# Altium integrated library Xilinx Virtex-II.IntLib: 158 symbols (part 36 of 59)
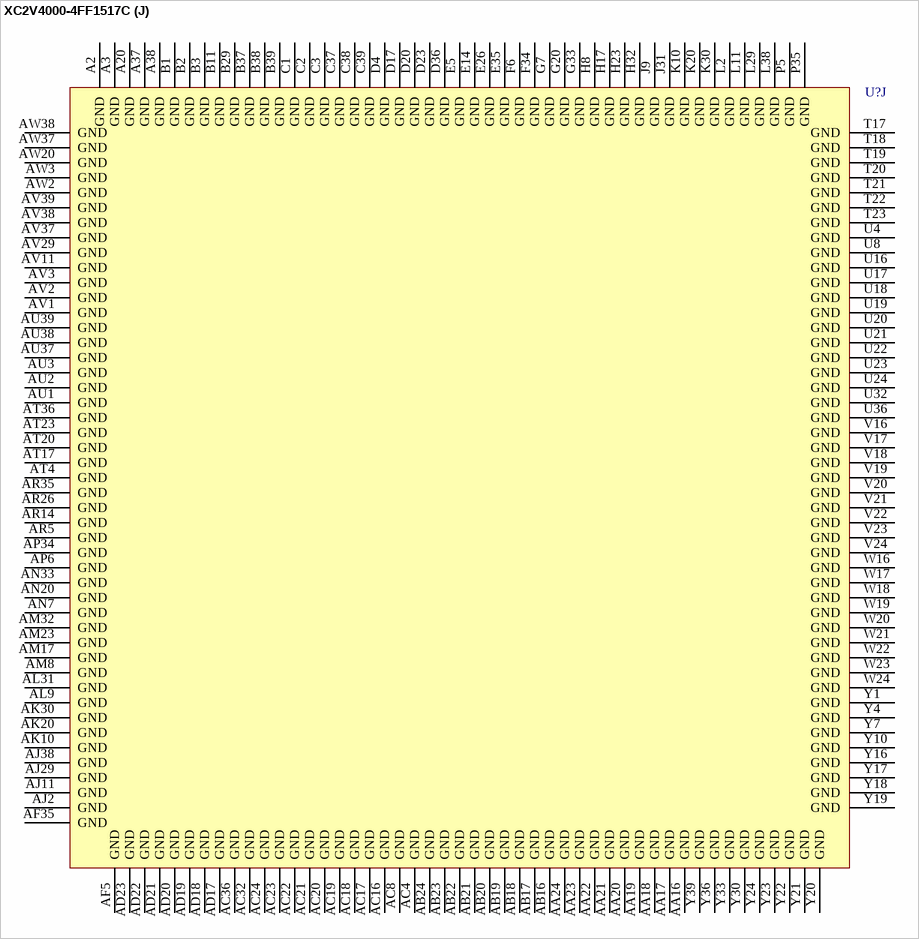
[diagram p434: symbol XC2V4000-4FF1517C]

## XC2V4000-4FF1517C
designator U?
Virtex-II 1.5V FPGA, 1517-Ball BGA, Commercial Grade; PackageDocument: ver1.0, Apr-2001; Published: 15-Apr-2002; DatasheetDocument: Mar-2004; PackageReference: FF1517; Publisher: Altium Limited; Code_JEDEC: MS-034-AAU-1
footprint FF1517 (1517-Ball Flip-Chip Fine Pitch Ball Grid Array (FF1517))
3D model XC2V4000-FF1517 (1517-Ball Flip-Chip Fine Pitch Ball Grid Array (FF1517))
signal-integrity model XC2V4000_FF1517 (Virtex-II)
part A pins: A21 IO_L94N_0/VREF_0 (io), A22 IO_L94P_0 (io), A23 IO_L82N_0 (io), A24 IO_L82P_0 (io), A25 IO_L70N_0 (io), A26 IO_L70P_0 (io), A27 IO_L58N_0 (io), A28 IO_L58P_0 (io), A29 IO_L52N_0 (io), A30 IO_L52P_0 (io), A31 NC, A32 NC, A33 IO_L22N_0 (io), A34 IO_L22P_0 (io), A35 NC, A36 NC, B21 IO_L91N_0/VREF_0 (io), B22 IO_L91P_0 (io), B23 IO_L79N_0 (io), B24 IO_L79P_0 (io), B25 IO_L73N_0 (io), B26 VCCO_0 (power), B27 IO_L55N_0 (io), B28 IO_L55P_0 (io), B30 NC, B31 NC, B32 IO_L25N_0 (io), B33 IO_L25P_0 (io), B34 NC, B35 NC, B36 IO_L01N_0 (io), C21 IO_L96N_0/GCLK5P (io), C22 VCCO_0 (power), C23 IO_L76N_0 (io), C24 IO_L76P_0 (io), C25 IO_L73P_0 (io), C26 IO_L67N_0 (io), C27 IO_L67P_0 (io), C28 IO_L49N_0 (io), C29 IO_L49P_0 (io), C30 IO_L28N_0 (io), C31 IO_L28P_0 (io), C32 IO_L19N_0 (io), C33 IO_L19P_0 (io), C34 IO_L04N_0/VREF_0 (io), C35 IO_L04P_0 (io), C36 IO_L01P_0 (io), D21 IO_L96P_0/GCLK4S (io), D22 IO_L93P_0 (io), D24 IO_L69N_0 (io), D25 IO_L69P_0/VREF_0 (io), D26 IO_L54N_0 (io), D27 IO_L54P_0 (io), D28 NC, D29 NC, D30 IO_L30N_0 (io), D31 IO_L30P_0 (io), D32 IO_L06N_0 (io), D33 IO_L03N_0/VRP_0 (io), D34 IO_L03P_0/VRN_0 (io), E21 IO_L93N_0 (io), E22 IO_L78N_0 (io), E23 IO_L78P_0 (io), E24 IO_L60N_0 (io), E25 IO_L60P_0 (io), E27 IO_L51N_0 (io), E28 IO_L51P_0/VREF_0 (io), E29 VCCO_0 (power), E30 IO_L21N_0 (io), E31 IO_L21P_0/VREF_0 (io), E32 NC, E33 IO_L06P_0 (io), F21 IO_L84N_0 (io), F22 IO_L84P_0 (io), F23 IO_L75N_0 (io), F24 IO_L75P_0/VREF_0 (io), F25 IO_L57N_0 (io), F26 IO_L57P_0/VREF_0 (io), F27 NC, F28 NC, F29 IO_L24N_0 (io), F30 IO_L24P_0 (io), F31 NC, F32 NC, G21 IO_L81N_0 (io), G22 IO_L81P_0/VREF_0 (io), G23 IO_L72N_0 (io), G24 IO_L72P_0 (io), G25 IO_L53P_0 (io), G26 IO_L53N_0 (io), G27 VCCO_0 (power), G28 IO_L27N_0 (io), G29 IO_L27P_0/VREF_0 (io), G30 IO_L05P_0 (io), G31 NC, H20 IO_L95N_0/GCLK7P (io), H21 IO_L83P_0 (io), H22 IO_L83N_0 (io), H24 IO_L56P_0 (io), H25 IO_L56N_0 (io), H26 NC, H27 NC, H28 NC, H29 NC, H30 IO_L05N_0 (io), J20 IO_L95P_0/GCLK6S (io), J21 IO_L80P_0 (io), J22 IO_L80N_0 (io), J23 IO_L68P_0 (io), J24 IO_L68N_0 (io), J25 VCCO_0 (power), J26 IO_L29P_0 (io), J27 IO_L29N_0 (io), J28 NC, J29 IO_L02P_0 (io), J30 IO_L02N_0 (io), K21 IO_L77P_0 (io), K22 IO_L77N_0 (io), K23 IO_L59P_0 (io), K24 IO_L59N_0 (io), K25 IO_L50N_0 (io), K26 IO_L23P_0 (io), K27 IO_L23N_0 (io), K28 NC, L20 IO_L92N_0 (io), L21 IO_L74P_0 (io), L22 IO_L74N_0 (io), L23 VCCO_0 (power), L24 IO_L50P_0 (io), L25 IO_L26P_0 (io), L26 IO_L26N_0 (io), M20 IO_L92P_0 (io), M21 IO_L71P_0 (io), M22 IO_L71N_0 (io), M23 NC, M24 NC, M25 IO_L20P_0 (io), M26 IO_L20N_0 (io), N21 VCCO_0 (power), N22 VCCO_0 (power), N23 VCCO_0 (power), N24 VCCO_0 (power), N25 VCCO_0 (power), N26 VCCO_0 (power), P21 VCCO_0 (power), P22 VCCO_0 (power), P23 VCCO_0 (power), P24 VCCO_0 (power), P25 VCCO_0 (power)
part B pins: A4 NC, A5 NC, A6 IO_L22N_1 (io), A7 IO_L22P_1 (io), A8 NC, A9 NC, A10 IO_L49N_1 (io), A11 IO_L49P_1 (io), A12 IO_L55N_1 (io), A13 IO_L55P_1 (io), A14 IO_L70N_1 (io), A15 IO_L70P_1 (io), A16 IO_L79N_1 (io), A17 IO_L79P_1 (io), A18 IO_L91N_1 (io), A19 IO_L91P_1/VREF_1 (io), B4 IO_L01P_1 (io), B5 NC, B6 NC, B7 IO_L25N_1 (io), B8 IO_L25P_1 (io), B9 NC, B10 NC, B12 IO_L54N_1 (io), B13 IO_L54P_1 (io), B14 VCCO_1 (power), B15 IO_L67P_1 (io), B16 IO_L76N_1 (io), B17 IO_L76P_1 (io), B18 IO_L82N_1 (io), B19 IO_L82P_1 (io), C4 IO_L01N_1 (io), C5 IO_L04N_1 (io), C6 IO_L04P_1/VREF_1 (io), C7 IO_L19N_1 (io), C8 IO_L19P_1 (io), C9 IO_L28N_1 (io), C10 IO_L28P_1 (io), C11 IO_L52N_1 (io), C12 IO_L52P_1 (io), C13 IO_L58N_1 (io), C14 IO_L58P_1 (io), C15 IO_L67N_1 (io), C16 IO_L73N_1 (io), C17 IO_L73P_1 (io), C18 VCCO_1 (power), C19 IO_L94N_1 (io), C20 IO_L94P_1/VREF_1 (io), D6 IO_L03N_1/VRP_1 (io), D7 IO_L03P_1/VRN_1 (io), D8 IO_L20N_1 (io), D9 IO_L24N_1 (io), D10 IO_L24P_1 (io), D11 NC, D12 NC, D13 IO_L57N_1/VREF_1 (io), D14 IO_L57P_1 (io), D15 IO_L72N_1 (io), D16 IO_L72P_1 (io), D18 IO_L84N_1 (io), D19 IO_L84P_1 (io), E7 IO_L20P_1 (io), E8 IO_L06P_1 (io), E9 IO_L21N_1/VREF_1 (io), E10 IO_L21P_1 (io), E11 VCCO_1 (power), E12 NC, E13 NC, E15 IO_L69N_1/VREF_1 (io), E16 IO_L69P_1 (io), E17 IO_L80P_1 (io), E18 IO_L80N_1 (io), E19 IO_L93N_1 (io), E20 IO_L93P_1 (io), F8 IO_L06N_1 (io), F9 NC, F10 NC, F11 IO_L30N_1 (io), F12 IO_L30P_1 (io), F13 IO_L51N_1/VREF_1 (io), F14 IO_L51P_1 (io), F15 IO_L60N_1 (io), F16 IO_L60P_1 (io), F17 IO_L78N_1 (io), F18 IO_L78P_1 (io), F19 IO_L96N_1/GCLK3P (io), F20 IO_L96P_1/GCLK2S (io), G9 NC, G10 NC, G11 IO_L27N_1/VREF_1 (io), G12 IO_L27P_1 (io), G13 VCCO_1 (power), G14 IO_L53P_1 (io), G15 IO_L53N_1 (io), G16 IO_L75N_1/VREF_1 (io), G17 IO_L75P_1 (io), G18 IO_L81N_1/VREF_1 (io), G19 IO_L81P_1 (io), H10 IO_L02N_1 (io), H11 NC, H12 NC, H13 NC, H14 NC, H15 IO_L59P_1 (io), H16 IO_L59N_1 (io), H18 IO_L95P_1/GCLK0S (io), H19 IO_L95N_1/GCLK1P (io), J10 IO_L02P_1 (io), J11 IO_L05N_1 (io), J12 IO_L23P_1 (io), J13 IO_L23N_1 (io), J14 NC, J15 VCCO_1 (power), J16 IO_L71P_1 (io), J17 IO_L71N_1 (io), J18 IO_L92P_1 (io), J19 IO_L92N_1 (io), K11 IO_L05P_1 (io), K12 NC, K13 NC, K14 IO_L29N_1 (io), K15 NC, K16 IO_L68P_1 (io), K17 IO_L68N_1 (io), K18 IO_L83P_1 (io), K19 IO_L83N_1 (io), L14 IO_L29P_1 (io), L15 IO_L50P_1 (io), L16 IO_L50N_1 (io), L17 VCCO_1 (power), L18 IO_L77P_1 (io), L19 IO_L77N_1 (io), M14 IO_L26P_1 (io), M15 IO_L26N_1 (io), M16 IO_L56P_1 (io), M17 IO_L56N_1 (io), M18 IO_L74P_1 (io), M19 IO_L74N_1 (io), N14 VCCO_1 (power), N15 VCCO_1 (power), N16 VCCO_1 (power), N17 VCCO_1 (power), N18 VCCO_1 (power), N19 VCCO_1 (power), P15 VCCO_1 (power), P16 VCCO_1 (power), P17 VCCO_1 (power), P18 VCCO_1 (power), P19 VCCO_1 (power)
part C pins: D1 IO_L04P_2 (io), D2 IO_L01P_2 (io), E1 IO_L04N_2 (io), E2 NC, E3 IO_L01N_2 (io), E4 IO_L03P_2/VREF_2 (io), F1 IO_L19P_2 (io), F2 NC, F3 NC, F4 IO_L03N_2 (io), F5 IO_L06P_2 (io), G1 IO_L19N_2 (io), G2 IO_L22P_2 (io), G3 NC, G4 IO_L24P_2 (io), G5 NC, G6 IO_L06N_2 (io), H1 NC, H2 IO_L22N_2 (io), H3 IO_L25P_2 (io), H4 IO_L24N_2 (io), H5 NC, H6 NC, H7 NC, J1 NC, J2 NC, J3 IO_L25N_2 (io), J4 NC, J5 IO_L28P_2 (io), J6 IO_L27P_2/VREF_2 (io), J7 IO_L21P_2/VREF_2 (io), J8 NC, K1 IO_L46P_2 (io), K2 NC, K3 IO_L43P_2 (io), K4 NC, K5 IO_L28N_2 (io), K6 IO_L27N_2 (io), K7 IO_L21N_2 (io), K8 NC, K9 IO_L20N_2 (io), L1 IO_L46N_2 (io), L3 IO_L43N_2 (io), L4 IO_L45P_2/VREF_2 (io), L5 VCCO_2 (power), L6 NC, L7 IO_L30P_2 (io), L8 NC, L9 IO_L23N_2 (io), L10 IO_L20P_2 (io), L12 IO_L05N_2 (io), L13 IO_L02N_2/VRP_2 (io), M1 IO_L55P_2 (io), M2 IO_L52P_2 (io), M3 IO_L49P_2 (io), M4 IO_L45N_2 (io), M5 IO_L48P_2 (io), M6 NC, M7 IO_L30N_2 (io), M8 NC, M9 IO_L23P_2 (io), M10 IO_L26N_2 (io), M11 IO_L05P_2 (io), M12 NC, M13 IO_L02P_2/VRN_2 (io), N1 IO_L55N_2 (io), N2 IO_L52N_2 (io), N3 IO_L49N_2 (io), N4 IO_L60P_2 (io), N5 IO_L48N_2 (io), N6 IO_L54P_2 (io), N7 VCCO_2 (power), N8 IO_L50N_2 (io), N9 IO_L44N_2 (io), N10 IO_L26P_2 (io), N11 IO_L29N_2 (io), N12 NC, P1 IO_L70P_2 (io), P2 VCCO_2 (power), P3 IO_L58P_2 (io), P4 IO_L60N_2 (io), P6 IO_L54N_2 (io), P7 IO_L57P_2/VREF_2 (io), P8 IO_L50P_2 (io), P9 IO_L44P_2 (io), P10 IO_L47N_2 (io), P11 IO_L29P_2 (io), P12 NC, P13 VCCO_2 (power), R1 IO_L70N_2 (io), R2 IO_L73P_2 (io), R3 IO_L58N_2 (io), R4 IO_L72P_2 (io), R5 IO_L69P_2/VREF_2 (io), R6 IO_L67P_2 (io), R7 IO_L57N_2 (io), R8 IO_L56N_2 (io), R9 VCCO_2 (power), R10 IO_L47P_2 (io), R11 IO_L51P_2/VREF_2 (io), R12 NC, R13 VCCO_2 (power), R14 VCCO_2 (power), T1 IO_L79P_2 (io), T2 IO_L73N_2 (io), T3 IO_L76P_2 (io), T4 IO_L72N_2 (io), T5 IO_L69N_2 (io), T6 IO_L67N_2 (io), T7 IO_L75P_2/VREF_2 (io), T8 IO_L56P_2 (io), T9 IO_L68N_2 (io), T10 IO_L59N_2 (io), T11 IO_L51N_2 (io), T12 IO_L53N_2 (io), T13 VCCO_2 (power), T14 VCCO_2 (power), U1 IO_L79N_2 (io), U2 IO_L82P_2 (io), U3 IO_L76N_2 (io), U5 IO_L81P_2/VREF_2 (io), U6 IO_L78P_2 (io), U7 IO_L75N_2 (io), U9 IO_L68P_2 (io), U10 IO_L59P_2 (io), U11 VCCO_2 (power), U12 IO_L53P_2 (io), U13 VCCO_2 (power), U14 VCCO_2 (power), V1 IO_L91P_2 (io), V2 IO_L82N_2 (io), V3 VCCO_2 (power), V4 IO_L93P_2/VREF_2 (io), V5 IO_L81N_2 (io), V6 IO_L78N_2 (io), V7 IO_L84P_2 (io), V8 IO_L83N_2 (io), V9 IO_L80N_2 (io), V10 IO_L77N_2 (io), V11 IO_L74N_2 (io), V12 IO_L71N_2 (io), V13 VCCO_2 (power), V14 VCCO_2 (power), W1 IO_L91N_2 (io), W2 IO_L94N_2 (io), W3 IO_L94P_2 (io), W4 IO_L93N_2 (io), W5 IO_L96N_2 (io), W6 IO_L96P_2 (io), W7 IO_L84N_2 (io), W8 IO_L83P_2 (io), W9 IO_L80P_2 (io), W10 IO_L77P_2 (io), W11 IO_L74P_2 (io), W12 IO_L71P_2 (io), W13 VCCO_2 (power), W14 VCCO_2 (power), Y8 IO_L95N_2 (io), Y9 IO_L95P_2 (io), Y11 IO_L92N_2 (io), Y12 IO_L92P_2 (io)
part D pins: AA1 IO_L92N_3 (io), AA2 IO_L83N_3 (io), AA3 IO_L95P_3 (io), AA4 IO_L82N_3 (io), AA5 IO_L91P_3 (io), AA6 IO_L94P_3 (io), AA7 IO_L79N_3 (io), AA8 IO_L96P_3 (io), AA9 IO_L93P_3 (io), AA10 IO_L84P_3 (io), AA11 IO_L81P_3 (io), AA12 IO_L78P_3 (io), AA13 VCCO_3 (power), AA14 VCCO_3 (power), AB1 IO_L92P_3 (io), AB2 IO_L83P_3 (io), AB3 VCCO_3 (power), AB4 IO_L82P_3 (io), AB5 IO_L76N_3 (io), AB6 IO_L73N_3 (io), AB7 IO_L79P_3 (io), AB8 IO_L96N_3 (io), AB9 IO_L93N_3/VREF_3 (io), AB10 IO_L84N_3 (io), AB11 IO_L81N_3/VREF_3 (io), AB12 IO_L78N_3 (io), AB13 VCCO_3 (power), AB14 VCCO_3 (power), AC1 IO_L80N_3 (io), AC2 IO_L77N_3 (io), AC3 IO_L77P_3 (io), AC5 IO_L76P_3 (io), AC6 IO_L73P_3 (io), AC7 IO_L70N_3 (io), AC9 IO_L75P_3 (io), AC10 IO_L72P_3 (io), AC11 VCCO_3 (power), AC12 IO_L60P_3 (io), AC13 VCCO_3 (power), AC14 VCCO_3 (power), AD1 IO_L80P_3 (io), AD2 IO_L74N_3 (io), AD3 IO_L71N_3 (io), AD4 IO_L67N_3 (io), AD5 IO_L58N_3 (io), AD6 IO_L55N_3 (io), AD7 IO_L70P_3 (io), AD8 IO_L69P_3 (io), AD9 IO_L75N_3/VREF_3 (io), AD10 IO_L72N_3 (io), AD11 IO_L57P_3 (io), AD12 IO_L60N_3 (io), AD13 VCCO_3 (power), AD14 VCCO_3 (power), AE1 IO_L68N_3 (io), AE2 IO_L74P_3 (io), AE3 IO_L71P_3 (io), AE4 IO_L67P_3 (io), AE5 IO_L58P_3 (io), AE6 IO_L55P_3 (io), AE7 IO_L49N_3 (io), AE8 IO_L69N_3/VREF_3 (io), AE9 VCCO_3 (power), AE10 IO_L54P_3 (io), AE11 IO_L57N_3/VREF_3 (io), AE12 IO_L45P_3 (io), AE13 VCCO_3 (power), AE14 VCCO_3 (power), AF1 IO_L68P_3 (io), AF2 VCCO_3 (power), AF3 IO_L59N_3 (io), AF4 IO_L52N_3 (io), AF6 IO_L47N_3 (io), AF7 IO_L49P_3 (io), AF8 IO_L51P_3 (io), AF9 IO_L48P_3 (io), AF10 IO_L54N_3 (io), AF11 NC, AF12 IO_L45N_3/VREF_3 (io), AF13 VCCO_3 (power), AG1 IO_L56N_3 (io), AG2 IO_L53N_3 (io), AG3 IO_L59P_3 (io), AG4 IO_L52P_3 (io), AG5 IO_L46N_3 (io), AG6 IO_L47P_3 (io), AG7 VCCO_3 (power), AG8 IO_L51N_3/VREF_3 (io), AG9 IO_L48N_3 (io), AG10 IO_L30P_3 (io), AG11 NC, AG12 IO_L21P_3 (io), AH1 IO_L56P_3 (io), AH2 IO_L53P_3 (io), AH3 IO_L50N_3 (io), AH4 IO_L43N_3 (io), AH5 IO_L46P_3 (io), AH6 NC, AH7 NC, AH8 NC, AH9 IO_L27P_3 (io), AH10 IO_L30N_3 (io), AH11 NC, AH12 IO_L21N_3/VREF_3 (io), AH13 IO_L03P_3 (io), AJ1 IO_L44N_3 (io), AJ3 IO_L50P_3 (io), AJ4 IO_L43P_3 (io), AJ5 VCCO_3 (power), AJ6 NC, AJ7 NC, AJ8 NC, AJ9 IO_L27N_3/VREF_3 (io), AJ10 NC, AJ12 NC, AJ13 IO_L03N_3/VREF_3 (io), AK1 IO_L44P_3 (io), AK2 NC, AK3 IO_L29N_3 (io), AK4 IO_L28N_3 (io), AK5 IO_L25N_3 (io), AK6 IO_L22N_3 (io), AK7 NC, AK8 IO_L24P_3 (io), AK9 IO_L24N_3 (io), AK11 NC, AL1 NC, AL2 NC, AL3 IO_L29P_3 (io), AL4 IO_L28P_3 (io), AL5 IO_L25P_3 (io), AL6 IO_L22P_3 (io), AL7 NC, AL8 IO_L06P_3 (io), AM1 NC, AM2 IO_L26N_3 (io), AM3 IO_L20N_3 (io), AM4 IO_L19N_3 (io), AM5 NC, AM6 IO_L04N_3 (io), AM7 IO_L06N_3 (io), AN1 IO_L23N_3 (io), AN2 IO_L26P_3 (io), AN3 IO_L20P_3 (io), AN4 IO_L19P_3 (io), AN5 NC, AN6 IO_L04P_3 (io), AP1 IO_L23P_3 (io), AP2 NC, AP3 IO_L05N_3 (io), AP4 IO_L05P_3 (io), AP5 IO_L01N_3 (io), AR1 NC, AR2 NC, AR3 IO_L02N_3/VRP_3 (io), AR4 IO_L01P_3 (io), AT1 NC, AT2 IO_L02P_3/VRN_3 (io), Y3 IO_L95N_3 (io), Y5 IO_L91N_3 (io), Y6 IO_L94N_3 (io)
part E pins: AF15 VCCO_4 (power), AF16 VCCO_4 (power), AF17 VCCO_4 (power), AF18 VCCO_4 (power), AF19 VCCO_4 (power), AG14 VCCO_4 (power), AG15 VCCO_4 (power), AG16 VCCO_4 (power), AG17 VCCO_4 (power), AG18 VCCO_4 (power), AG19 VCCO_4 (power), AH14 IO_L20N_4 (io), AH15 IO_L20P_4 (io), AH16 NC, AH17 NC, AH18 IO_L71N_4 (io), AH19 IO_L71P_4 (io), AH20 IO_L92N_4 (io), AJ14 IO_L26N_4 (io), AJ15 IO_L26P_4 (io), AJ16 IO_L50P_4 (io), AJ17 VCCO_4 (power), AJ18 IO_L74N_4 (io), AJ19 IO_L74P_4 (io), AJ20 IO_L92P_4 (io), AK12 NC, AK13 IO_L23N_4 (io), AK14 IO_L23P_4 (io), AK15 IO_L50N_4 (io), AK16 IO_L59N_4 (io), AK17 IO_L59P_4 (io), AK18 IO_L77N_4 (io), AK19 IO_L77P_4 (io), AL10 IO_L05N_4/VRP_4 (io), AL11 IO_L05P_4/VRN_4 (io), AL12 NC, AL13 IO_L29N_4 (io), AL14 IO_L29P_4 (io), AL15 VCCO_4 (power), AL16 IO_L68N_4 (io), AL17 IO_L68P_4 (io), AL18 IO_L80N_4 (io), AL19 IO_L80P_4 (io), AL20 IO_L95N_4/GCLK3S (io), AM9 IO_L02N_4/D0 (io), AM10 IO_L02P_4/D1 (io), AM11 NC, AM12 NC, AM13 NC, AM14 NC, AM15 IO_L56N_4 (io), AM16 IO_L56P_4 (io), AM18 IO_L83N_4 (io), AM19 IO_L83P_4 (io), AM20 IO_L95P_4/GCLK2P (io), AN9 NC, AN10 NC, AN11 IO_L30P_4 (io), AN12 IO_L30N_4 (io), AN13 VCCO_4 (power), AN14 IO_L52P_4 (io), AN15 IO_L52N_4 (io), AN16 IO_L72P_4 (io), AN17 IO_L72N_4 (io), AN18 IO_L81P_4/VREF_4 (io), AN19 IO_L81N_4 (io), AP8 NC, AP9 NC, AP10 IO_L27P_4/VREF_4 (io), AP11 IO_L27N_4 (io), AP12 NC, AP13 NC, AP14 IO_L57P_4/VREF_4 (io), AP15 IO_L57N_4 (io), AP16 IO_L75P_4/VREF_4 (io), AP17 IO_L75N_4 (io), AP18 IO_L84P_4 (io), AP19 IO_L84N_4 (io), AR6 IO_L03P_4/D3/ALT_VRN_4 (io), AR7 IO_L06P_4 (io), AR8 IO_L06N_4 (io), AR9 IO_L24P_4 (io), AR10 IO_L24N_4 (io), AR11 VCCO_4 (power), AR12 IO_L53N_4 (io), AR13 IO_L53P_4 (io), AR15 IO_L60P_4 (io), AR16 IO_L60N_4 (io), AR17 IO_L78P_4 (io), AR18 IO_L78N_4 (io), AR19 IO_L93N_4 (io), AT6 IO_L03N_4/D2/ALT_VRP_4 (io), AT7 IO_L21P_4/VREF_4 (io), AT8 IO_L21N_4 (io), AT9 NC, AT10 NC, AT11 IO_L51P_4/VREF_4 (io), AT12 IO_L51N_4 (io), AT13 IO_L54P_4 (io), AT14 IO_L54N_4 (io), AT15 IO_L69P_4/VREF_4 (io), AT16 IO_L69N_4 (io), AT18 IO_L93P_4 (io), AT19 IO_L96P_4/GCLK0P (io), AU4 IO_L01P_4/INIT_B (io), AU5 IO_L04P_4 (io), AU6 IO_L04N_4/VREF_4 (io), AU7 IO_L19P_4 (io), AU8 IO_L19N_4 (io), AU9 IO_L28P_4 (io), AU10 IO_L28N_4 (io), AU11 IO_L49P_4 (io), AU12 IO_L49N_4 (io), AU13 IO_L70P_4 (io), AU14 IO_L70N_4 (io), AU15 IO_L76P_4 (io), AU16 IO_L79P_4 (io), AU17 IO_L79N_4 (io), AU18 VCCO_4 (power), AU19 IO_L96N_4/GCLK1S (io), AV4 IO_L01N_4/DOUT (io), AV5 NC, AV6 NC, AV7 IO_L25P_4 (io), AV8 IO_L25N_4 (io), AV9 NC, AV10 NC, AV12 IO_L58P_4 (io), AV13 IO_L58N_4 (io), AV14 VCCO_4 (power), AV15 IO_L76N_4 (io), AV16 IO_L82P_4 (io), AV17 IO_L82N_4 (io), AV18 IO_L91P_4 (io), AV19 IO_L91N_4/VREF_4 (io), AW4 NC, AW5 NC, AW6 IO_L22P_4 (io), AW7 IO_L22N_4 (io), AW8 NC, AW9 NC, AW10 IO_L55P_4 (io), AW11 IO_L55N_4 (io), AW12 IO_L67P_4 (io), AW13 IO_L67N_4 (io), AW14 IO_L73P_4 (io), AW15 IO_L73N_4 (io), AW16 NC, AW17 NC, AW18 IO_L94P_4 (io), AW19 IO_L94N_4/VREF_4 (io)
part F pins: AF21 VCCO_5 (power), AF22 VCCO_5 (power), AF23 VCCO_5 (power), AF24 VCCO_5 (power), AF25 VCCO_5 (power), AG21 VCCO_5 (power), AG22 VCCO_5 (power), AG23 VCCO_5 (power), AG24 VCCO_5 (power), AG25 VCCO_5 (power), AG26 VCCO_5 (power), AH21 IO_L74N_5 (io), AH22 IO_L74P_5 (io), AH23 IO_L56N_5 (io), AH24 IO_L56P_5 (io), AH25 IO_L26N_5 (io), AH26 IO_L26P_5 (io), AJ21 IO_L77N_5 (io), AJ22 IO_L77P_5 (io), AJ23 VCCO_5 (power), AJ24 IO_L50N_5 (io), AJ25 IO_L50P_5 (io), AJ26 NC, AK21 IO_L80N_5 (io), AK22 IO_L80P_5 (io), AK23 IO_L68N_5 (io), AK24 IO_L68P_5 (io), AK25 NC, AK26 NC, AK27 NC, AK28 NC, AK29 NC, AL21 IO_L83N_5 (io), AL22 IO_L83P_5 (io), AL23 IO_L69P_5 (io), AL24 IO_L69N_5/VREF_5 (io), AL25 VCCO_5 (power), AL26 NC, AL27 IO_L23N_5 (io), AL28 IO_L23P_5 (io), AL29 NC, AL30 IO_L05P_5/VRN_5 (io), AM21 IO_L92N_5 (io), AM22 IO_L92P_5 (io), AM24 IO_L59N_5 (io), AM25 IO_L59P_5 (io), AM26 IO_L30P_5 (io), AM27 IO_L30N_5 (io), AM28 IO_L20N_5 (io), AM29 IO_L20P_5 (io), AM30 IO_L05N_5/VRP_5 (io), AM31 IO_L02P_5/D7 (io), AN21 IO_L95N_5/GCLK5S (io), AN22 IO_L95P_5/GCLK4P (io), AN23 IO_L71N_5 (io), AN24 IO_L71P_5 (io), AN25 IO_L53N_5 (io), AN26 IO_L53P_5 (io), AN27 VCCO_5 (power), AN28 IO_L29N_5 (io), AN29 IO_L29P_5 (io), AN30 IO_L21N_5/VREF_5 (io), AN31 IO_L02N_5/D6 (io), AP20 IO_L96P_5/GCLK6P (io), AP21 IO_L96N_5/GCLK7S (io), AP22 IO_L78P_5 (io), AP23 IO_L78N_5 (io), AP24 IO_L60P_5 (io), AP25 IO_L60N_5 (io), AP26 IO_L54P_5 (io), AP27 IO_L54N_5 (io), AP28 NC, AP29 NC, AP30 IO_L21P_5 (io), AP31 NC, AP32 NC, AR20 IO_L93P_5 (io), AR21 IO_L93N_5 (io), AR22 IO_L81P_5 (io), AR23 IO_L81N_5/VREF_5 (io), AR24 IO_L72P_5 (io), AR25 IO_L72N_5 (io), AR27 IO_L51P_5 (io), AR28 IO_L51N_5/VREF_5 (io), AR29 VCCO_5 (power), AR30 IO_L24P_5 (io), AR31 IO_L24N_5 (io), AR32 IO_L06P_5 (io), AR33 IO_L06N_5 (io), AR34 IO_L03N_5/D4/ALT_VRP_5 (io), AT21 IO_L84P_5 (io), AT22 IO_L84N_5 (io), AT24 IO_L75P_5 (io), AT25 IO_L75N_5/VREF_5 (io), AT26 IO_L57P_5 (io), AT27 IO_L57N_5/VREF_5 (io), AT28 NC, AT29 NC, AT30 IO_L27P_5 (io), AT31 IO_L27N_5/VREF_5 (io), AT32 NC, AT33 NC, AT34 IO_L03P_5/D5/ALT_VRN_5 (io), AU20 IO_L94P_5/VREF_5 (io), AU21 IO_L94N_5 (io), AU22 VCCO_5 (power), AU23 IO_L76P_5 (io), AU24 IO_L76N_5 (io), AU25 IO_L70N_5 (io), AU26 IO_L67P_5 (io), AU27 IO_L67N_5 (io), AU28 IO_L52P_5 (io), AU29 IO_L52N_5 (io), AU30 IO_L28P_5 (io), AU31 IO_L28N_5 (io), AU32 IO_L19P_5 (io), AU33 IO_L19N_5 (io), AU34 IO_L04P_5/VREF_5 (io), AU35 IO_L04N_5 (io), AU36 IO_L01N_5/RDWR_B (io), AV21 NC, AV22 NC, AV23 IO_L79P_5 (io), AV24 IO_L79N_5 (io), AV25 IO_L70P_5 (io), AV26 VCCO_5 (power), AV27 IO_L55P_5 (io), AV28 IO_L55N_5 (io), AV30 NC, AV31 NC, AV32 IO_L25P_5 (io), AV33 IO_L25N_5 (io), AV34 NC, AV35 NC, AV36 IO_L01P_5/CS_B (io), AW21 IO_L91P_5/VREF_5 (io), AW22 IO_L91N_5 (io), AW23 IO_L82P_5 (io), AW24 IO_L82N_5 (io), AW25 IO_L73P_5 (io), AW26 IO_L73N_5 (io), AW27 IO_L58P_5 (io), AW28 IO_L58N_5 (io), AW29 IO_L49P_5 (io), AW30 IO_L49N_5 (io), AW31 NC, AW32 NC, AW33 IO_L22P_5 (io), AW34 IO_L22N_5 (io), AW35 NC, AW36 NC
part G pins: AA26 VCCO_6 (power), AA27 VCCO_6 (power), AA28 IO_L70N_6 (io), AA29 IO_L73N_6 (io), AA30 IO_L76N_6 (io), AA31 IO_L79N_6 (io), AA32 IO_L82N_6 (io), AA33 IO_L84P_6 (io), AA34 IO_L96N_6 (io), AA35 IO_L96P_6 (io), AA36 IO_L93P_6 (io), AA37 IO_L95P_6 (io), AA38 IO_L95N_6 (io), AA39 IO_L92N_6 (io), AB26 VCCO_6 (power), AB27 VCCO_6 (power), AB28 IO_L70P_6 (io), AB29 IO_L73P_6 (io), AB30 IO_L76P_6 (io), AB31 IO_L79P_6 (io), AB32 IO_L82P_6 (io), AB33 IO_L84N_6 (io), AB34 IO_L78P_6 (io), AB35 IO_L81P_6 (io), AB36 IO_L93N_6/VREF_6 (io), AB37 VCCO_6 (power), AB38 IO_L83N_6 (io), AB39 IO_L92P_6 (io), AC26 VCCO_6 (power), AC27 VCCO_6 (power), AC28 IO_L52N_6 (io), AC29 VCCO_6 (power), AC30 IO_L58N_6 (io), AC31 IO_L67N_6 (io), AC33 IO_L75P_6 (io), AC34 IO_L78N_6 (io), AC35 IO_L81N_6/VREF_6 (io), AC37 IO_L77N_6 (io), AC38 IO_L83P_6 (io), AC39 IO_L80N_6 (io), AD26 VCCO_6 (power), AD27 VCCO_6 (power), AD28 IO_L52P_6 (io), AD29 IO_L51P_6 (io), AD30 IO_L58P_6 (io), AD31 IO_L67P_6 (io), AD32 IO_L55N_6 (io), AD33 IO_L75N_6/VREF_6 (io), AD34 IO_L68N_6 (io), AD35 IO_L69P_6 (io), AD36 IO_L72P_6 (io), AD37 IO_L77P_6 (io), AD38 IO_L74N_6 (io), AD39 IO_L80P_6 (io), AE26 VCCO_6 (power), AE27 VCCO_6 (power), AE28 NC, AE29 IO_L51N_6/VREF_6 (io), AE30 IO_L46N_6 (io), AE31 VCCO_6 (power), AE32 IO_L55P_6 (io), AE33 IO_L57P_6 (io), AE34 IO_L68P_6 (io), AE35 IO_L69N_6/VREF_6 (io), AE36 IO_L72N_6 (io), AE37 IO_L59N_6 (io), AE38 IO_L74P_6 (io), AE39 IO_L71N_6 (io), AF27 VCCO_6 (power), AF28 NC, AF29 IO_L28N_6 (io), AF30 IO_L46P_6 (io), AF31 IO_L43N_6 (io), AF32 IO_L49N_6 (io), AF33 IO_L57N_6/VREF_6 (io), AF34 IO_L54P_6 (io), AF36 IO_L60P_6 (io), AF37 IO_L59P_6 (io), AF38 VCCO_6 (power), AF39 IO_L71P_6 (io), AG28 NC, AG29 IO_L28P_6 (io), AG30 IO_L25N_6 (io), AG31 IO_L43P_6 (io), AG32 IO_L49P_6 (io), AG33 VCCO_6 (power), AG34 IO_L54N_6 (io), AG35 IO_L48P_6 (io), AG36 IO_L60N_6 (io), AG37 IO_L50N_6 (io), AG38 IO_L53N_6 (io), AG39 IO_L56N_6 (io), AH27 IO_L01N_6 (io), AH28 NC, AH29 IO_L04N_6 (io), AH30 IO_L25P_6 (io), AH31 IO_L22N_6 (io), AH32 NC, AH33 IO_L30P_6 (io), AH34 NC, AH35 IO_L48N_6 (io), AH36 IO_L45P_6 (io), AH37 IO_L50P_6 (io), AH38 IO_L53P_6 (io), AH39 IO_L56P_6 (io), AJ27 IO_L01P_6 (io), AJ28 IO_L04P_6 (io), AJ30 IO_L19N_6 (io), AJ31 IO_L22P_6 (io), AJ32 NC, AJ33 IO_L30N_6 (io), AJ34 NC, AJ35 VCCO_6 (power), AJ36 IO_L45N_6/VREF_6 (io), AJ37 IO_L44N_6 (io), AJ39 IO_L47N_6 (io), AK31 IO_L19P_6 (io), AK32 NC, AK33 IO_L21P_6 (io), AK34 IO_L27P_6 (io), AK35 IO_L29N_6 (io), AK36 NC, AK37 IO_L44P_6 (io), AK38 NC, AK39 IO_L47P_6 (io), AL32 NC, AL33 IO_L21N_6/VREF_6 (io), AL34 IO_L27N_6/VREF_6 (io), AL35 IO_L29P_6 (io), AL36 NC, AL37 IO_L26N_6 (io), AL38 NC, AL39 NC, AM33 NC, AM34 NC, AM35 NC, AM36 IO_L24P_6 (io), AM37 IO_L26P_6 (io), AM38 IO_L23N_6 (io), AM39 NC, AN34 IO_L06P_6 (io), AN35 NC, AN36 IO_L24N_6 (io), AN37 NC, AN38 IO_L23P_6 (io), AN39 IO_L20N_6 (io), AP35 IO_L06N_6 (io), AP36 IO_L03P_6 (io), AP37 NC, AP38 NC, AP39 IO_L20P_6 (io), AR36 IO_L03N_6/VREF_6 (io), AR37 IO_L02N_6/VRP_6 (io), AR38 NC, AR39 IO_L05N_6 (io), AT38 IO_L02P_6/VRN_6 (io), AT39 IO_L05P_6 (io), Y28 IO_L91P_6 (io), Y29 IO_L91N_6 (io), Y31 IO_L94P_6 (io), Y32 IO_L94N_6 (io)
part H pins: D38 IO_L01P_7 (io), D39 NC, E36 IO_L03P_7/VREF_7 (io), E37 IO_L01N_7 (io), E38 NC, E39 NC, F35 IO_L03N_7 (io), F36 IO_L04P_7 (io), F37 IO_L04N_7 (io), F38 NC, F39 IO_L22P_7 (io), G34 IO_L06P_7 (io), G35 NC, G36 IO_L21P_7/VREF_7 (io), G37 IO_L19P_7 (io), G38 IO_L25P_7 (io), G39 IO_L22N_7 (io), H33 IO_L05N_7 (io), H34 IO_L06N_7 (io), H35 NC, H36 IO_L21N_7 (io), H37 IO_L19N_7 (io), H38 IO_L25N_7 (io), H39 NC, J32 IO_L05P_7 (io), J33 NC, J34 IO_L24P_7 (io), J35 IO_L27P_7/VREF_7 (io), J36 IO_L30P_7 (io), J37 IO_L28P_7 (io), J38 NC, J39 NC, K29 NC, K31 IO_L23N_7 (io), K32 IO_L23P_7 (io), K33 NC, K34 IO_L24N_7 (io), K35 IO_L27N_7 (io), K36 IO_L30N_7 (io), K37 IO_L28N_7 (io), K38 NC, K39 IO_L43P_7 (io), L27 IO_L02N_7/VRP_7 (io), L28 NC, L30 NC, L31 IO_L26N_7 (io), L32 NC, L33 NC, L34 NC, L35 VCCO_7 (power), L36 IO_L45P_7/VREF_7 (io), L37 IO_L49P_7 (io), L39 IO_L43N_7 (io), M27 IO_L02P_7/VRN_7 (io), M28 IO_L20N_7 (io), M29 NC, M30 IO_L29N_7 (io), M31 IO_L26P_7 (io), M32 NC, M33 NC, M34 NC, M35 IO_L46P_7 (io), M36 IO_L45N_7 (io), M37 IO_L49N_7 (io), M38 IO_L52P_7 (io), M39 IO_L55P_7 (io), N28 IO_L20P_7 (io), N29 NC, N30 IO_L29P_7 (io), N31 IO_L47N_7 (io), N32 IO_L50N_7 (io), N33 VCCO_7 (power), N34 IO_L48P_7 (io), N35 IO_L46N_7 (io), N36 IO_L54P_7 (io), N37 IO_L58P_7 (io), N38 IO_L52N_7 (io), N39 IO_L55N_7 (io), P27 VCCO_7 (power), P28 IO_L44N_7 (io), P29 NC, P30 IO_L53N_7 (io), P31 IO_L47P_7 (io), P32 IO_L50P_7 (io), P33 IO_L51P_7/VREF_7 (io), P34 IO_L48N_7 (io), P36 IO_L54N_7 (io), P37 IO_L58N_7 (io), P38 VCCO_7 (power), P39 IO_L67P_7 (io), R26 VCCO_7 (power), R27 VCCO_7 (power), R28 IO_L44P_7 (io), R29 IO_L56N_7 (io), R30 IO_L53P_7 (io), R31 VCCO_7 (power), R32 IO_L68N_7 (io), R33 IO_L51N_7 (io), R34 IO_L57P_7/VREF_7 (io), R35 IO_L60P_7 (io), R36 IO_L69P_7/VREF_7 (io), R37 IO_L70P_7 (io), R38 IO_L73P_7 (io), R39 IO_L67N_7 (io), T26 VCCO_7 (power), T27 VCCO_7 (power), T28 IO_L59N_7 (io), T29 IO_L56P_7 (io), T30 IO_L71N_7 (io), T31 IO_L74N_7 (io), T32 IO_L68P_7 (io), T33 IO_L72P_7 (io), T34 IO_L57N_7 (io), T35 IO_L60N_7 (io), T36 IO_L69N_7 (io), T37 IO_L70N_7 (io), T38 IO_L73N_7 (io), T39 IO_L79P_7 (io), U26 VCCO_7 (power), U27 VCCO_7 (power), U28 IO_L59P_7 (io), U29 VCCO_7 (power), U30 IO_L71P_7 (io), U31 IO_L74P_7 (io), U33 IO_L72N_7 (io), U34 IO_L75P_7/VREF_7 (io), U35 IO_L78P_7 (io), U37 IO_L76P_7 (io), U38 IO_L76N_7 (io), U39 IO_L79N_7 (io), V26 VCCO_7 (power), V27 VCCO_7 (power), V28 IO_L77N_7 (io), V29 IO_L80N_7 (io), V30 IO_L83N_7 (io), V31 IO_L92N_7 (io), V32 IO_L95N_7 (io), V33 IO_L81P_7/VREF_7 (io), V34 IO_L75N_7 (io), V35 IO_L78N_7 (io), V36 IO_L84P_7 (io), V37 VCCO_7 (power), V38 IO_L82P_7 (io), V39 IO_L91P_7 (io), W26 VCCO_7 (power), W27 VCCO_7 (power), W28 IO_L77P_7 (io), W29 IO_L80P_7 (io), W30 IO_L83P_7 (io), W31 IO_L92P_7 (io), W32 IO_L95P_7 (io), W33 IO_L81N_7 (io), W34 IO_L96P_7 (io), W35 IO_L93P_7/VREF_7 (io), W36 IO_L84N_7 (io), W37 IO_L94P_7 (io), W38 IO_L82N_7 (io), W39 IO_L91N_7 (io), Y34 IO_L96N_7 (io), Y35 IO_L93N_7 (io), Y37 IO_L94N_7 (io)
part I pins: AA15 VCCINT (power), AA25 VCCINT (power), AB15 VCCINT (power), AB25 VCCINT (power), AC15 VCCINT (power), AC25 VCCINT (power), AD15 VCCINT (power), AD16 VCCINT (power), AD24 VCCINT (power), AD25 VCCINT (power), AE15 VCCINT (power), AE16 VCCINT (power), AE17 VCCINT (power), AE18 VCCINT (power), AE19 VCCINT (power), AE20 VCCINT (power), AE21 VCCINT (power), AE22 VCCINT (power), AE23 VCCINT (power), AE24 VCCINT (power), AE25 VCCINT (power), AF14 VCCINT (power), AF20 VCCINT (power), AF26 VCCINT (power), AG13 VCCINT (power), AG20 VCCINT (power), AG27 VCCINT (power), AN8 PWRDWN_B (in), AN32 M0 (in), AP7 DONE (io), AP33 M1 (in), AT3 VCCAUX (power), AT5 CCLK (io), AT35 M2 (in), AT37 VCCAUX (power), AV20 VCCAUX (power), B20 VCCAUX (power), D3 VCCAUX (power), D5 VBATT (power), D35 TDI (in), D37 VCCAUX (power), E6 TDO (out), E34 HSWAP_EN (in), F7 TMS (in), F33 DXP, G8 TCK (in), G32 DXN, H9 RSVD, H31 PROG_B (in), N13 VCCINT (power), N20 VCCINT (power), N27 VCCINT (power), P14 VCCINT (power), P20 VCCINT (power), P26 VCCINT (power), R15 VCCINT (power), R16 VCCINT (power), R17 VCCINT (power), R18 VCCINT (power), R19 VCCINT (power), R20 VCCINT (power), R21 VCCINT (power), R22 VCCINT (power), R23 VCCINT (power), R24 VCCINT (power), R25 VCCINT (power), T15 VCCINT (power), T16 VCCINT (power), T24 VCCINT (power), T25 VCCINT (power), U15 VCCINT (power), U25 VCCINT (power), V15 VCCINT (power), V25 VCCINT (power), W15 VCCINT (power), W25 VCCINT (power), Y2 VCCAUX (power), Y13 VCCINT (power), Y14 VCCINT (power), Y15 VCCINT (power), Y25 VCCINT (power), Y26 VCCINT (power), Y27 VCCINT (power), Y38 VCCAUX (power)
part J pins: A2 GND (power), A3 GND (power), A20 GND (power), A37 GND (power), A38 GND (power), AA16 GND (power), AA17 GND (power), AA18 GND (power), AA19 GND (power), AA20 GND (power), AA21 GND (power), AA22 GND (power), AA23 GND (power), AA24 GND (power), AB16 GND (power), AB17 GND (power), AB18 GND (power), AB19 GND (power), AB20 GND (power), AB21 GND (power), AB22 GND (power), AB23 GND (power), AB24 GND (power), AC4 GND (power), AC8 GND (power), AC16 GND (power), AC17 GND (power), AC18 GND (power), AC19 GND (power), AC20 GND (power), AC21 GND (power), AC22 GND (power), AC23 GND (power), AC24 GND (power), AC32 GND (power), AC36 GND (power), AD17 GND (power), AD18 GND (power), AD19 GND (power), AD20 GND (power), AD21 GND (power), AD22 GND (power), AD23 GND (power), AF5 GND (power), AF35 GND (power), AJ2 GND (power), AJ11 GND (power), AJ29 GND (power), AJ38 GND (power), AK10 GND (power), AK20 GND (power), AK30 GND (power), AL9 GND (power), AL31 GND (power), AM8 GND (power), AM17 GND (power), AM23 GND (power), AM32 GND (power), AN7 GND (power), AN20 GND (power), AN33 GND (power), AP6 GND (power), AP34 GND (power), AR5 GND (power), AR14 GND (power), AR26 GND (power), AR35 GND (power), AT4 GND (power), AT17 GND (power), AT20 GND (power), AT23 GND (power), AT36 GND (power), AU1 GND (power), AU2 GND (power), AU3 GND (power), AU37 GND (power), AU38 GND (power), AU39 GND (power), AV1 GND (power), AV2 GND (power), AV3 GND (power), AV11 GND (power), AV29 GND (power), AV37 GND (power), AV38 GND (power), AV39 GND (power), AW2 GND (power), AW3 GND (power), AW20 GND (power), AW37 GND (power), AW38 GND (power), B1 GND (power), B2 GND (power), B3 GND (power), B11 GND (power), B29 GND (power), B37 GND (power), B38 GND (power), B39 GND (power), C1 GND (power), C2 GND (power), C3 GND (power), C37 GND (power), C38 GND (power), C39 GND (power), D4 GND (power), D17 GND (power), D20 GND (power), D23 GND (power), D36 GND (power), E5 GND (power), E14 GND (power), E26 GND (power), E35 GND (power), F6 GND (power), F34 GND (power), G7 GND (power), G20 GND (power), G33 GND (power), H8 GND (power), H17 GND (power), H23 GND (power), H32 GND (power), J9 GND (power), J31 GND (power), K10 GND (power), K20 GND (power), K30 GND (power), L2 GND (power), L11 GND (power), L29 GND (power), L38 GND (power), P5 GND (power), P35 GND (power), T17 GND (power), T18 GND (power), T19 GND (power), T20 GND (power), T21 GND (power), T22 GND (power), T23 GND (power), U4 GND (power), U8 GND (power), U16 GND (power), U17 GND (power), U18 GND (power), U19 GND (power), U20 GND (power), U21 GND (power), U22 GND (power), U23 GND (power), U24 GND (power), U32 GND (power), U36 GND (power), V16 GND (power), V17 GND (power), V18 GND (power), V19 GND (power), V20 GND (power), V21 GND (power), V22 GND (power), V23 GND (power), V24 GND (power), W16 GND (power), W17 GND (power), W18 GND (power), W19 GND (power), W20 GND (power), W21 GND (power), W22 GND (power), W23 GND (power), W24 GND (power), Y1 GND (power), Y4 GND (power), Y7 GND (power), Y10 GND (power), Y16 GND (power), Y17 GND (power), Y18 GND (power), Y19 GND (power), Y20 GND (power), Y21 GND (power), Y22 GND (power), Y23 GND (power), Y24 GND (power), Y30 GND (power), Y33 GND (power), Y36 GND (power), Y39 GND (power)
part A text: Bank 0
part B text: Bank 1
part C text: Bank 2
part D text: Bank 3
part E text: Bank 4
part F text: Bank 5
part G text: Bank 6
part H text: Bank 7

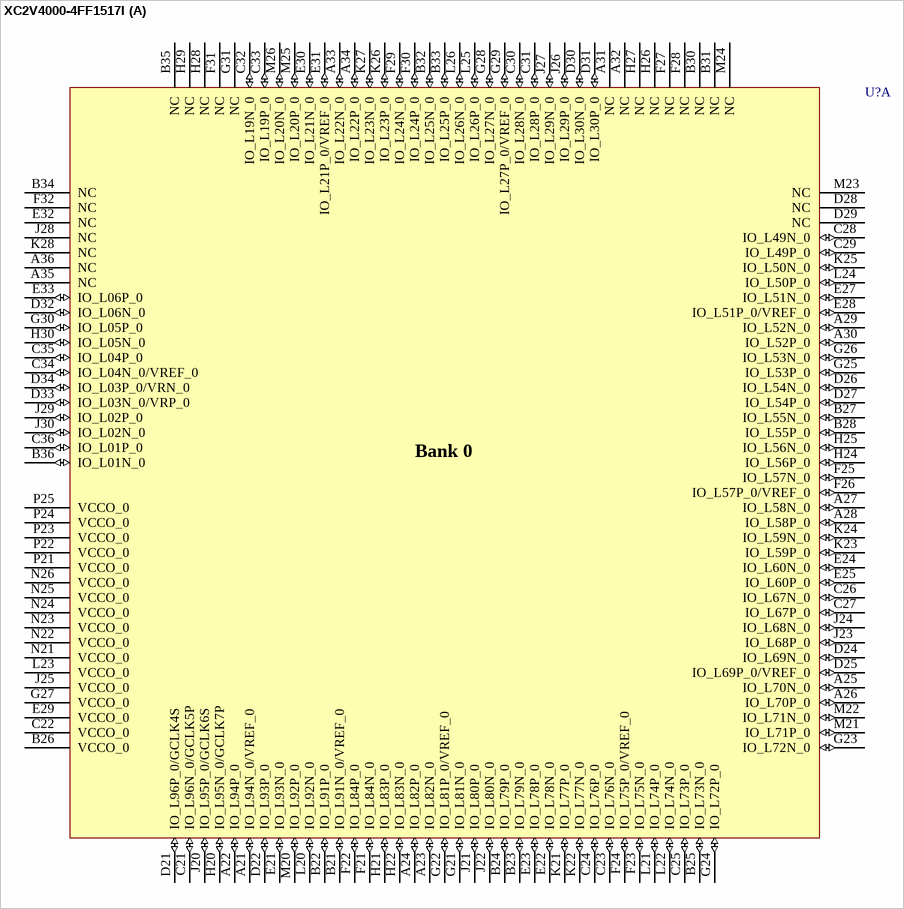
[diagram p314: symbol XC2V4000-4FF1517I]

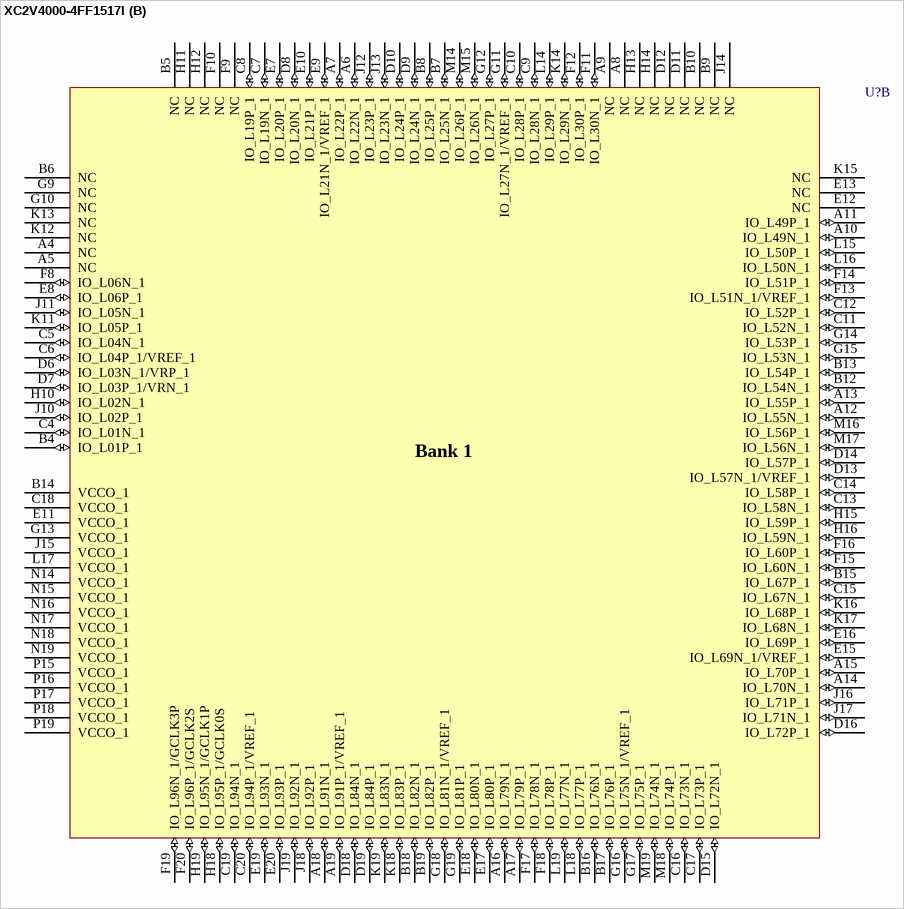
[diagram p315: symbol XC2V4000-4FF1517I]

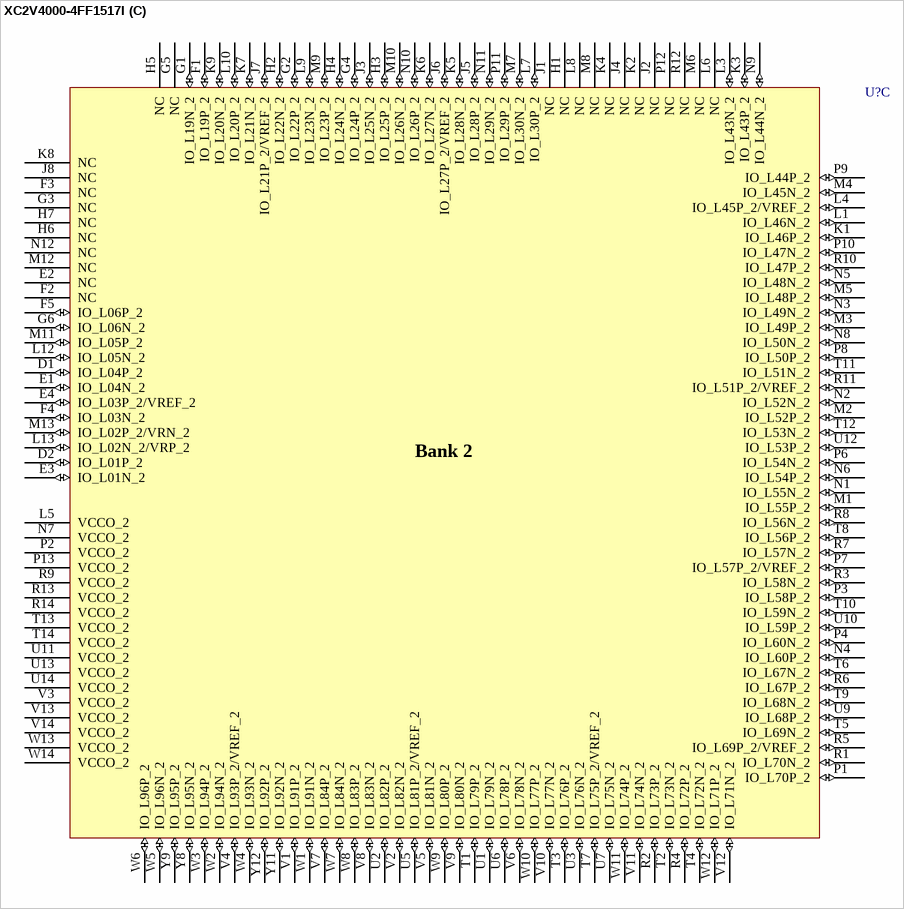
[diagram p316: symbol XC2V4000-4FF1517I]

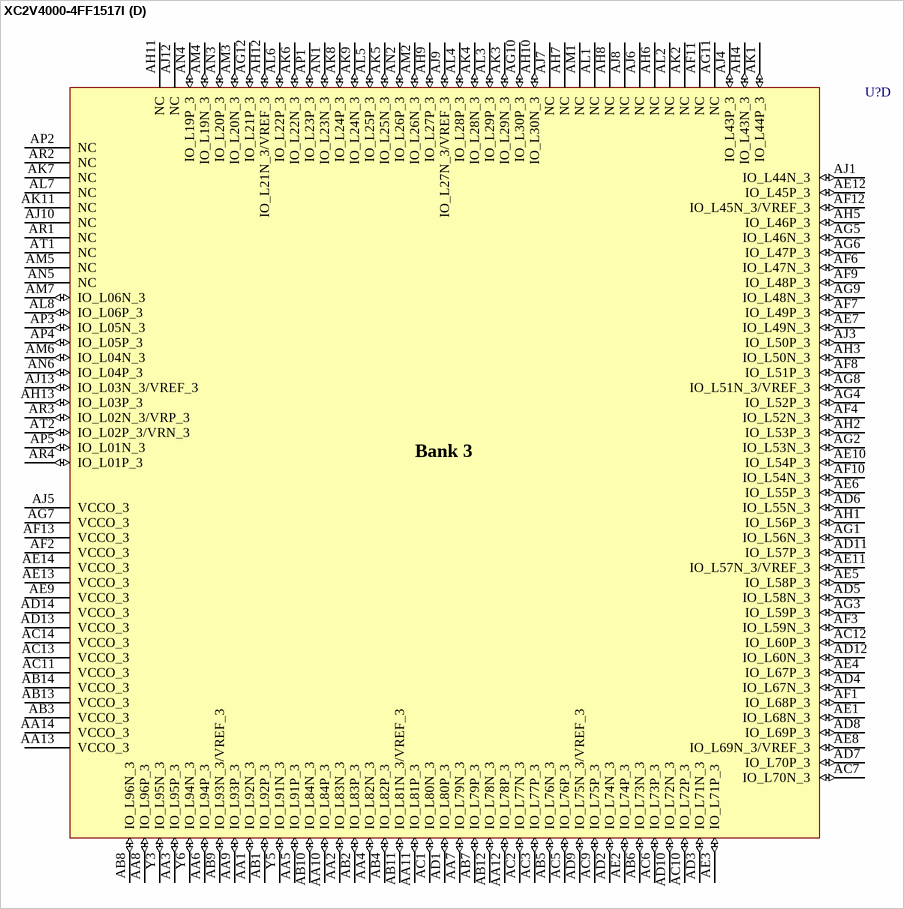
[diagram p317: symbol XC2V4000-4FF1517I]

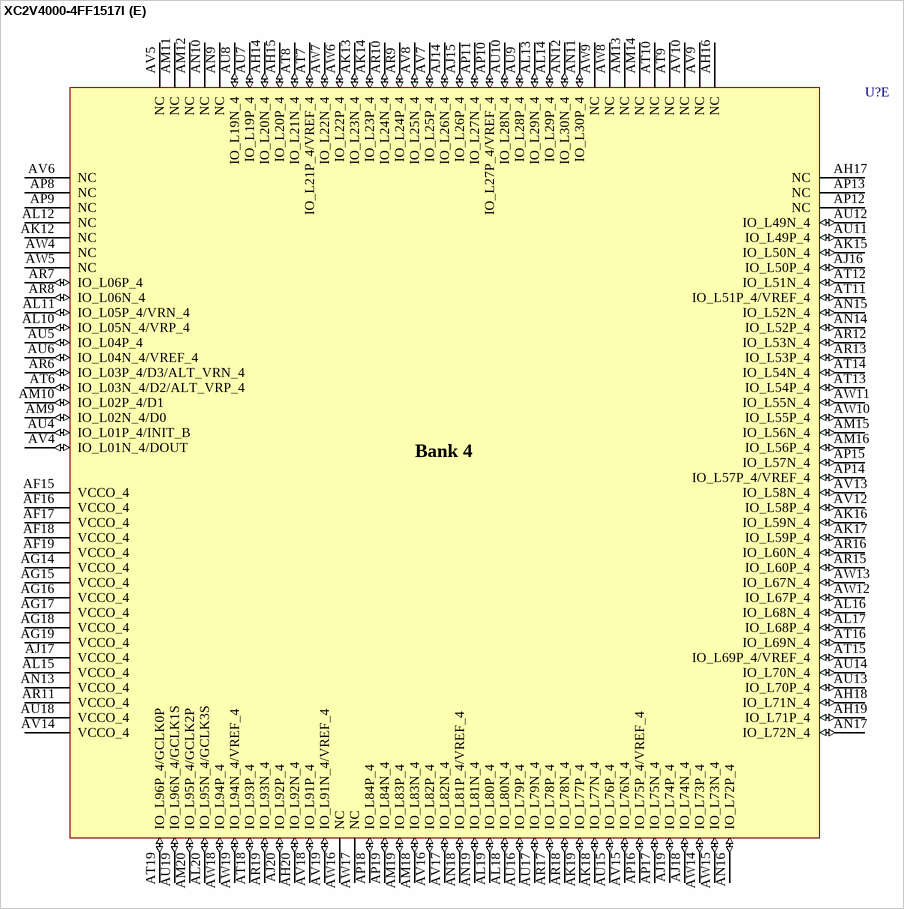
[diagram p318: symbol XC2V4000-4FF1517I]

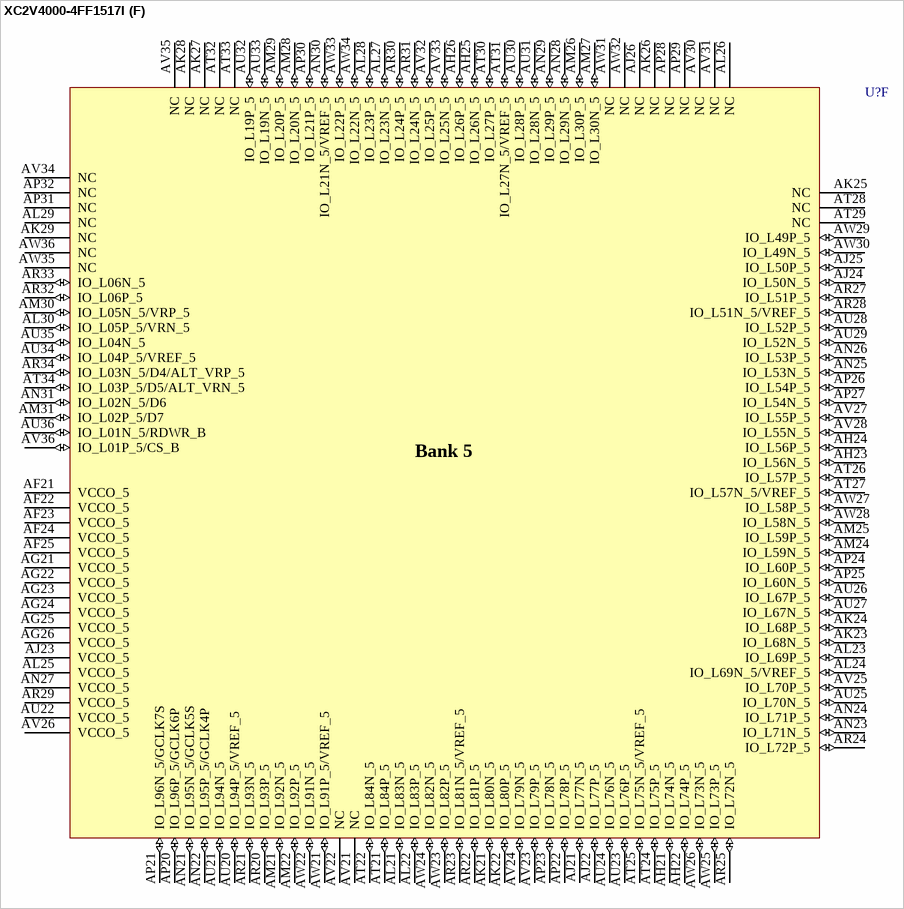
[diagram p319: symbol XC2V4000-4FF1517I]

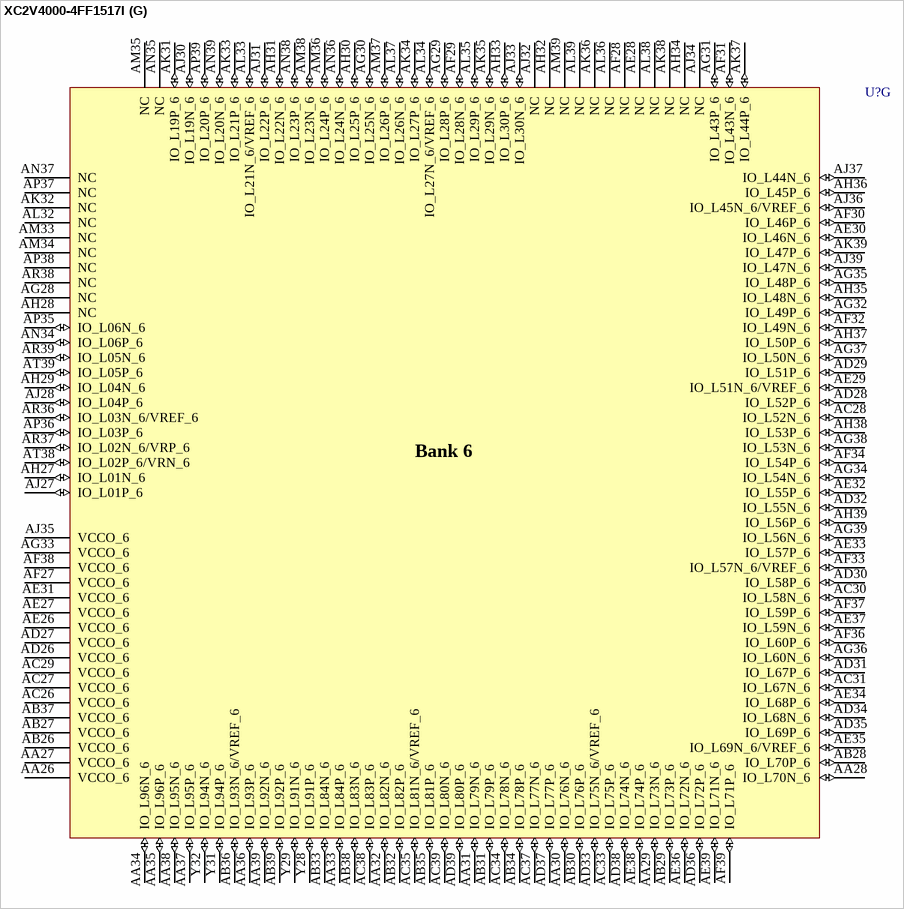
[diagram p320: symbol XC2V4000-4FF1517I]

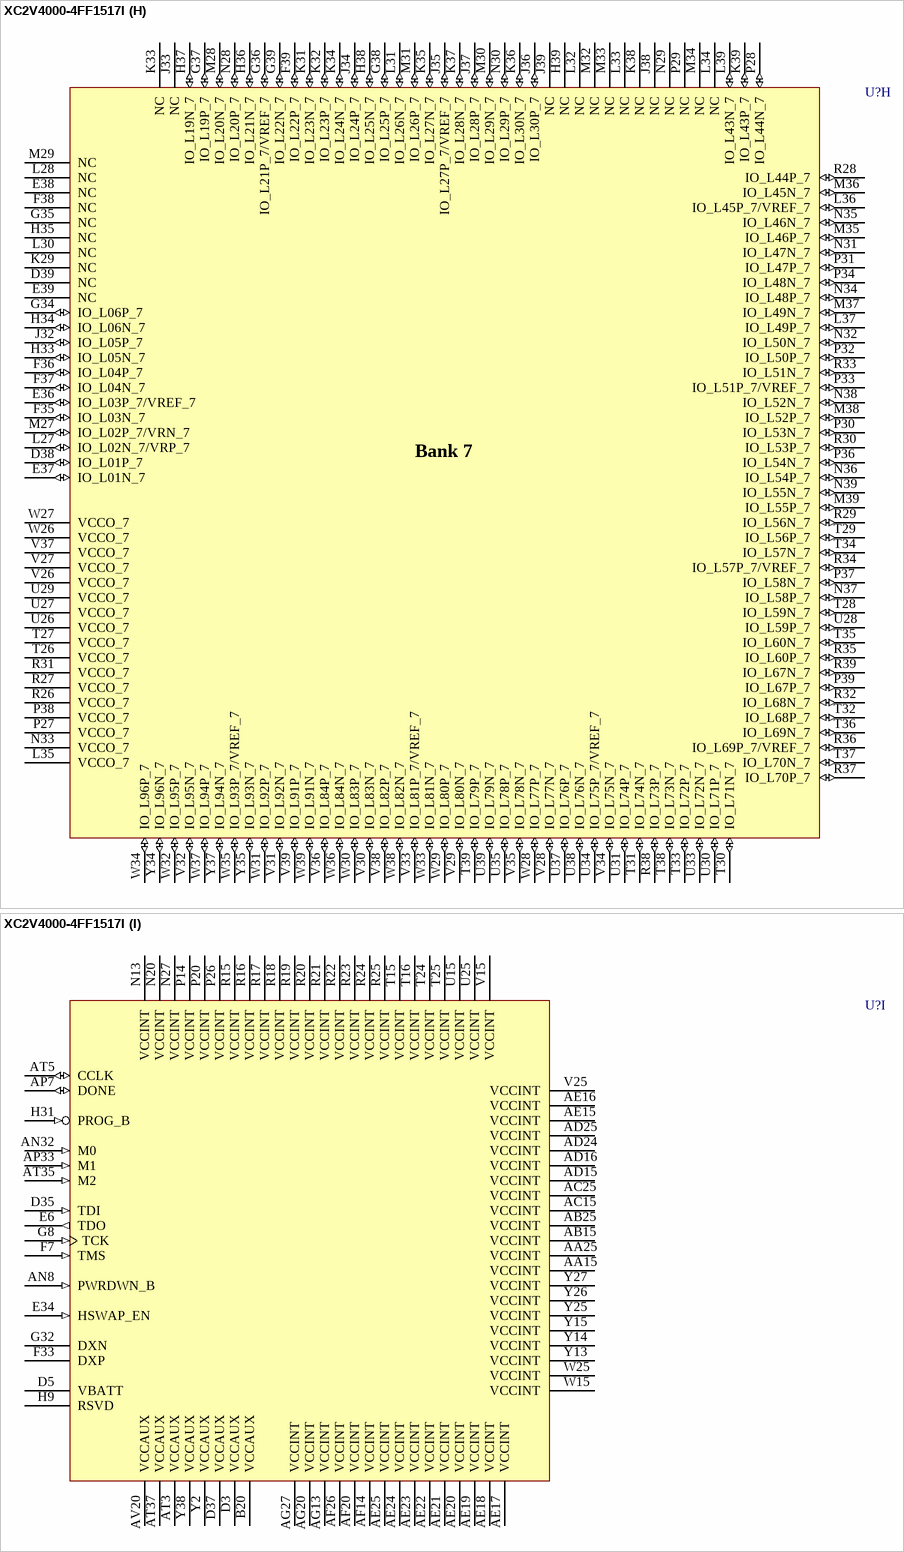
[diagram p321: symbol XC2V4000-4FF1517I]

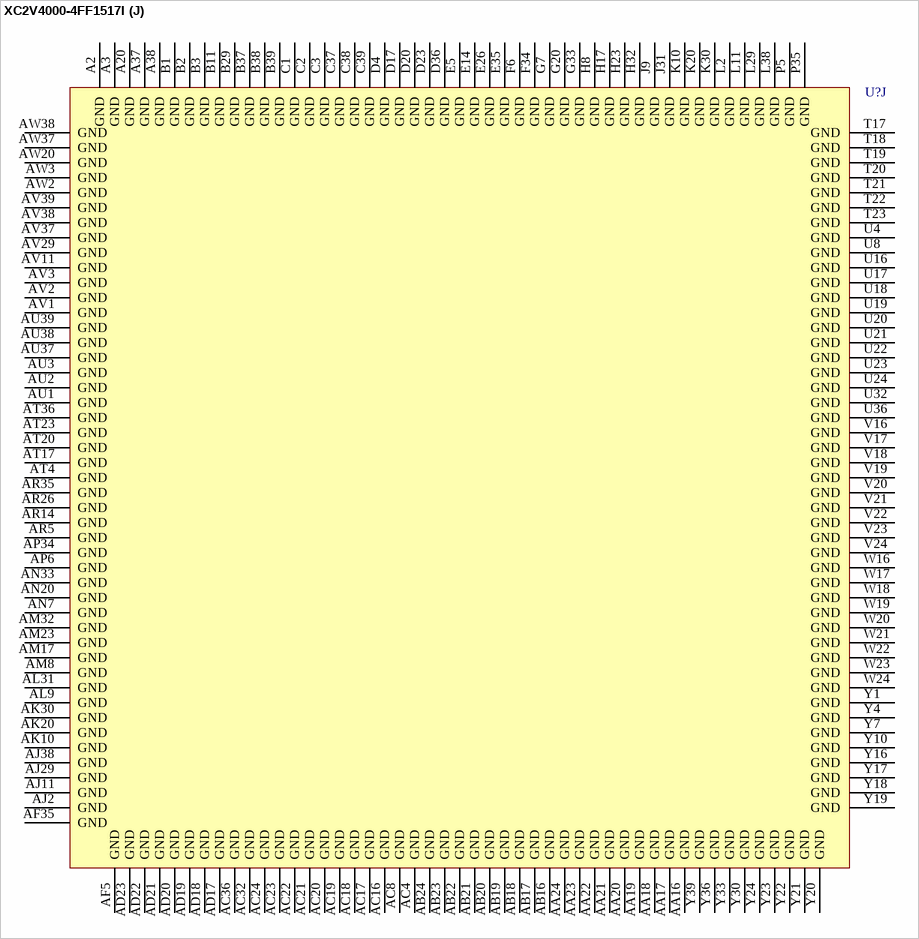
[diagram p322: symbol XC2V4000-4FF1517I]